# EAGLE library part DRV8871 (library IC & Transistor)
DRV8871: 3.6A Brushed DC Motor Driver With Internal Current Sense Created by: Idris
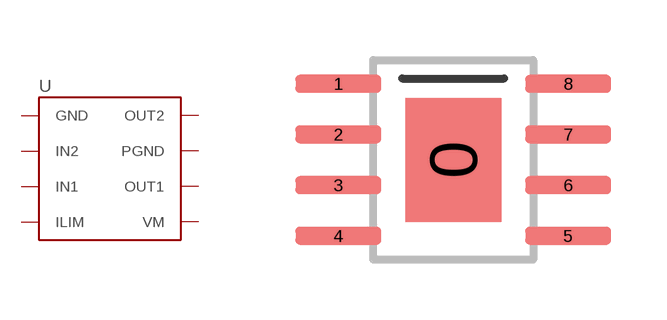
[diagram p41: symbol with the pads of R-PDSO-G8; footprint R-PDSO-G8]

Designator prefix U

## DRV8871_(R-PDSO-G8) (CYTRON-PC: S-IC-DRV8871; MPN: DRV8871)  [R-PDSO-G8]
0  GND
1  GND
2  IN2
3  IN1
4  ILIM
5  VM
6  OUT1
7  PGND
8  OUT2

## Footprint R-PDSO-G8 (pad centres in mm)
R-PDSO-G8 Package Created by: Idris
smd 2.4 x 3.1: 0 0,0
smd 2.15 x 0.45: 1 -2.875,1.905; 2 -2.875,0.635; 3 -2.875,-0.635; 4 -2.875,-1.905; 5 2.875,-1.905; 6 2.875,-0.635; 7 2.875,0.635; 8 2.875,1.905